# Altium schematic symbol library 机载动力寻优.SchLib: 16 symbols
Pins are listed as number, name and electrical type; pins without a type are passive.

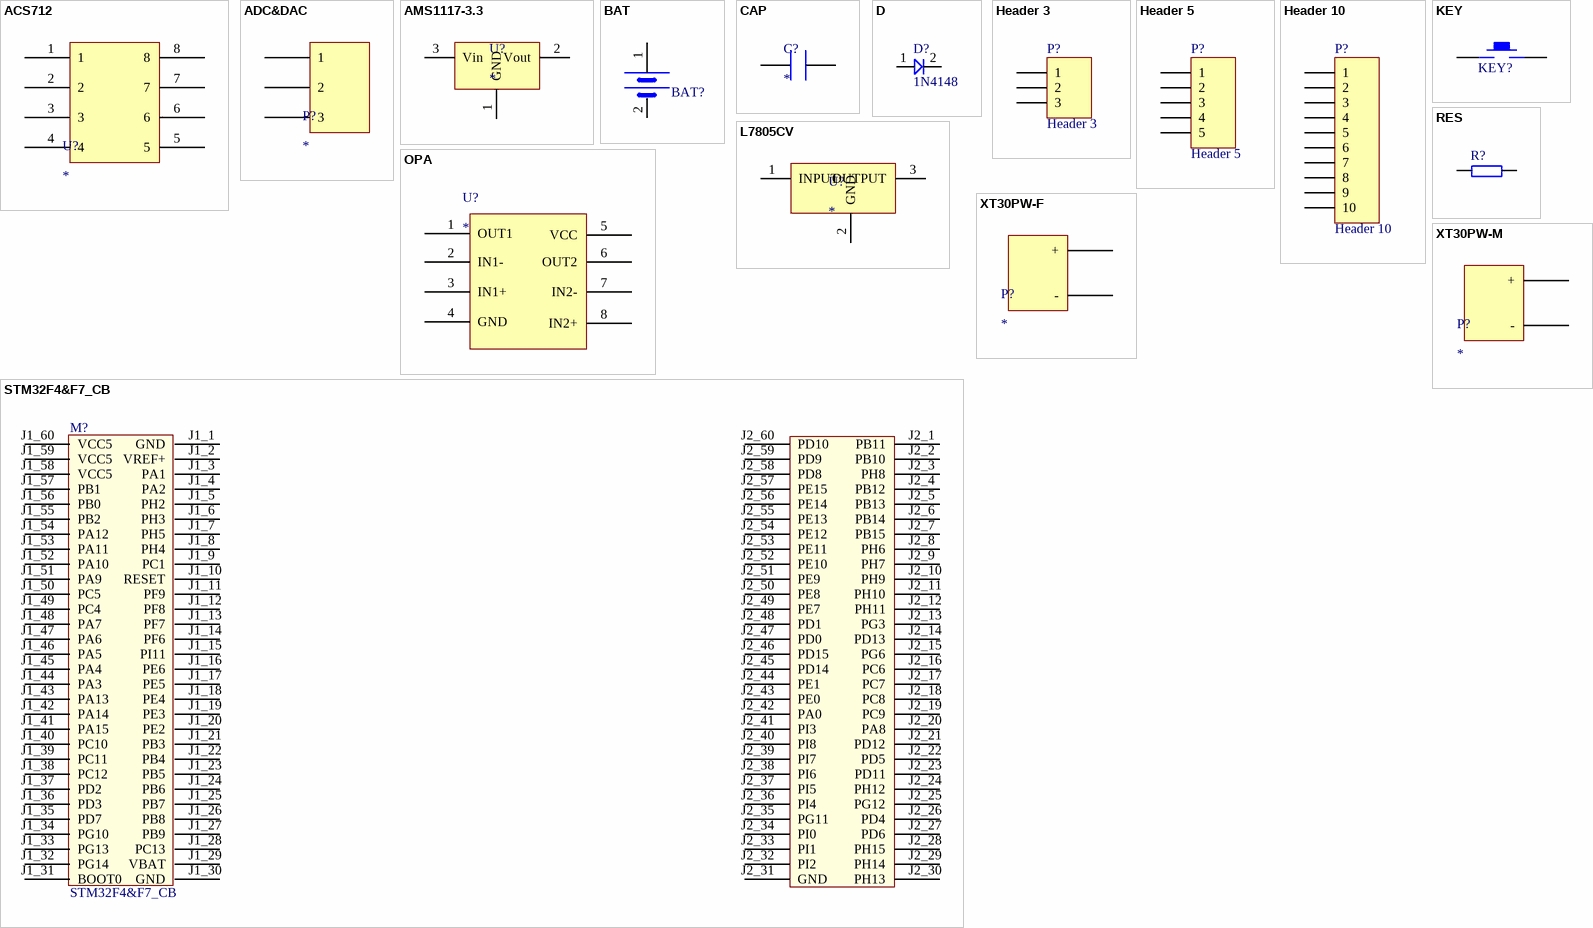
[diagram p0: symbols ACS712 to XT30PW-M]

## ACS712
designator U?
IC
pins: 1, 2, 3, 4, 5, 6, 7, 8

## ADC&DAC
designator P?
排针
pins: ?1 1, ?2 2, ?3 3

## AMS1117-3.3
designator U?
IC
pins: 1 GND, 2 Vout, 3 Vin

## BAT
designator BAT?, comment BATT  (value not drawn)
电源
footprint BATM
pins: 1 VCC, 2 GND

## CAP
designator C?
电容
pins: 1, 2

## D
designator D?, comment 1N4148
二极管
footprint SOD-123
footprint DIODE_SOP (4148)
footprint DIODE-L (6A10)
footprint DIODE-M (1N5822)
footprint DIODE_S (1N4007)
footprint DIODE_3*5.3 (ME:SS14/SS24;L:5.3mm;W:3mm;)
footprint DIODE_4*5.6 (ME:RS2J.L:5.6mm;W:4mm)
footprint DIODE_6.2*8.13 (ME:RS2J.L:8.13mm;W:6.2mm)
pins: 1, 2

## Header 3
designator P?
Header, 3-Pin; LatestRevisionDate: 17-Jul-2002; LatestRevisionNote: Re-released for DXP Platform.; Publisher: Altium Limited
footprint 串口
signal-integrity model Connector
pins: 1, 2, 3

## Header 5
designator P?
Header, 5-Pin; LatestRevisionDate: 17-Jul-2002; LatestRevisionNote: Re-released for DXP Platform.; Publisher: Altium Limited
footprint 串口数据记录仪
signal-integrity model Connector
pins: 1, 2, 3, 4, 5

## Header 10
designator P?
Header, 10-Pin; LatestRevisionDate: 17-Jul-2002; LatestRevisionNote: Re-released for DXP Platform.; Publisher: Altium Limited
footprint IO口
signal-integrity model Connector
pins: 1, 2, 3, 4, 5, 6, 7, 8, 9, 10

## KEY
designator KEY?, comment KEY_M  (value not drawn)
开关
footprint KEY_M (KEY_MID)
footprint KEY_2 (KEY?)
footprint KEY_SOP_BG (KEY?)
pins: 1, 2

## L7805CV
designator U?
IC
pins: 1 INPUT, 2 GND, 3 OUTPUT

## OPA
designator U?
运放器
pins: 1 OUT1, 2 IN1-, 3 IN1+, 4 GND, 5 VCC, 6 OUT2, 7 IN2-, 8 IN2+

## RES
designator R?
电阻
pins: 1, 2

## STM32F4&F7_CB
designator M?
F429/746 Core Board
footprint STM32F4&F7_CB (PIN:0.5mm;SOP;)
pins: J1_1 GND, J1_2 VREF+, J1_3 PA1, J1_4 PA2, J1_5 PH2, J1_6 PH3, J1_7 PH5, J1_8 PH4, J1_9 PC1, J1_10 RESET, J1_11 PF9, J1_12 PF8, J1_13 PF7, J1_14 PF6, J1_15 PI11, J1_16 PE6, J1_17 PE5, J1_18 PE4, J1_19 PE3, J1_20 PE2, J1_21 PB3, J1_22 PB4, J1_23 PB5, J1_24 PB6, J1_25 PB7, J1_26 PB8, J1_27 PB9, J1_28 PC13, J1_29 VBAT, J1_30 GND, J1_31 BOOT0, J1_32 PG14, J1_33 PG13, J1_34 PG10, J1_35 PD7, J1_36 PD3, J1_37 PD2, J1_38 PC12, J1_39 PC11, J1_40 PC10, J1_41 PA15, J1_42 PA14, J1_43 PA13, J1_44 PA3, J1_45 PA4, J1_46 PA5, J1_47 PA6, J1_48 PA7, J1_49 PC4, J1_50 PC5, J1_51 PA9, J1_52 PA10, J1_53 PA11, J1_54 PA12, J1_55 PB2, J1_56 PB0, J1_57 PB1, J1_58 VCC5, J1_59 VCC5, J1_60 VCC5, J2_1 PB11, J2_2 PB10, J2_3 PH8, J2_4 PB12, J2_5 PB13, J2_6 PB14, J2_7 PB15, J2_8 PH6, J2_9 PH7, J2_10 PH9, J2_11 PH10, J2_12 PH11, J2_13 PG3, J2_14 PD13, J2_15 PG6, J2_16 PC6, J2_17 PC7, J2_18 PC8, J2_19 PC9, J2_20 PA8, J2_21 PD12, J2_22 PD5, J2_23 PD11, J2_24 PH12, J2_25 PG12, J2_26 PD4, J2_27 PD6, J2_28 PH15, J2_29 PH14, J2_30 PH13, J2_31 GND, J2_32 PI2, J2_33 PI1, J2_34 PI0, J2_35 PG11, J2_36 PI4, J2_37 PI5, J2_38 PI6, J2_39 PI7, J2_40 PI8, J2_41 PI3, J2_42 PA0, J2_43 PE0, J2_44 PE1, J2_45 PD14, J2_46 PD15, J2_47 PD0, J2_48 PD1, J2_49 PE7, J2_50 PE8, J2_51 PE9, J2_52 PE10, J2_53 PE11, J2_54 PE12, J2_55 PE13, J2_56 PE14, J2_57 PE15, J2_58 PD8, J2_59 PD9, J2_60 PD10

## XT30PW-F
designator P?
pins: 1 +, 2 -

## XT30PW-M
designator P?
pins: 1 +, 2 -